# Altium footprint library FuzzyWasp.PcbLib: 36 footprints (part 1 of 3)
Each footprint in its own frame and in the unit in brackets; x right, y up, seen from the top. Pads: shape width x height; smd on the part's side, far side on the other; paste and mask are expansions set on the pad; w line width, h text height; cw(c..) or ccw(c..) is an arc to the next point about the centre after c.
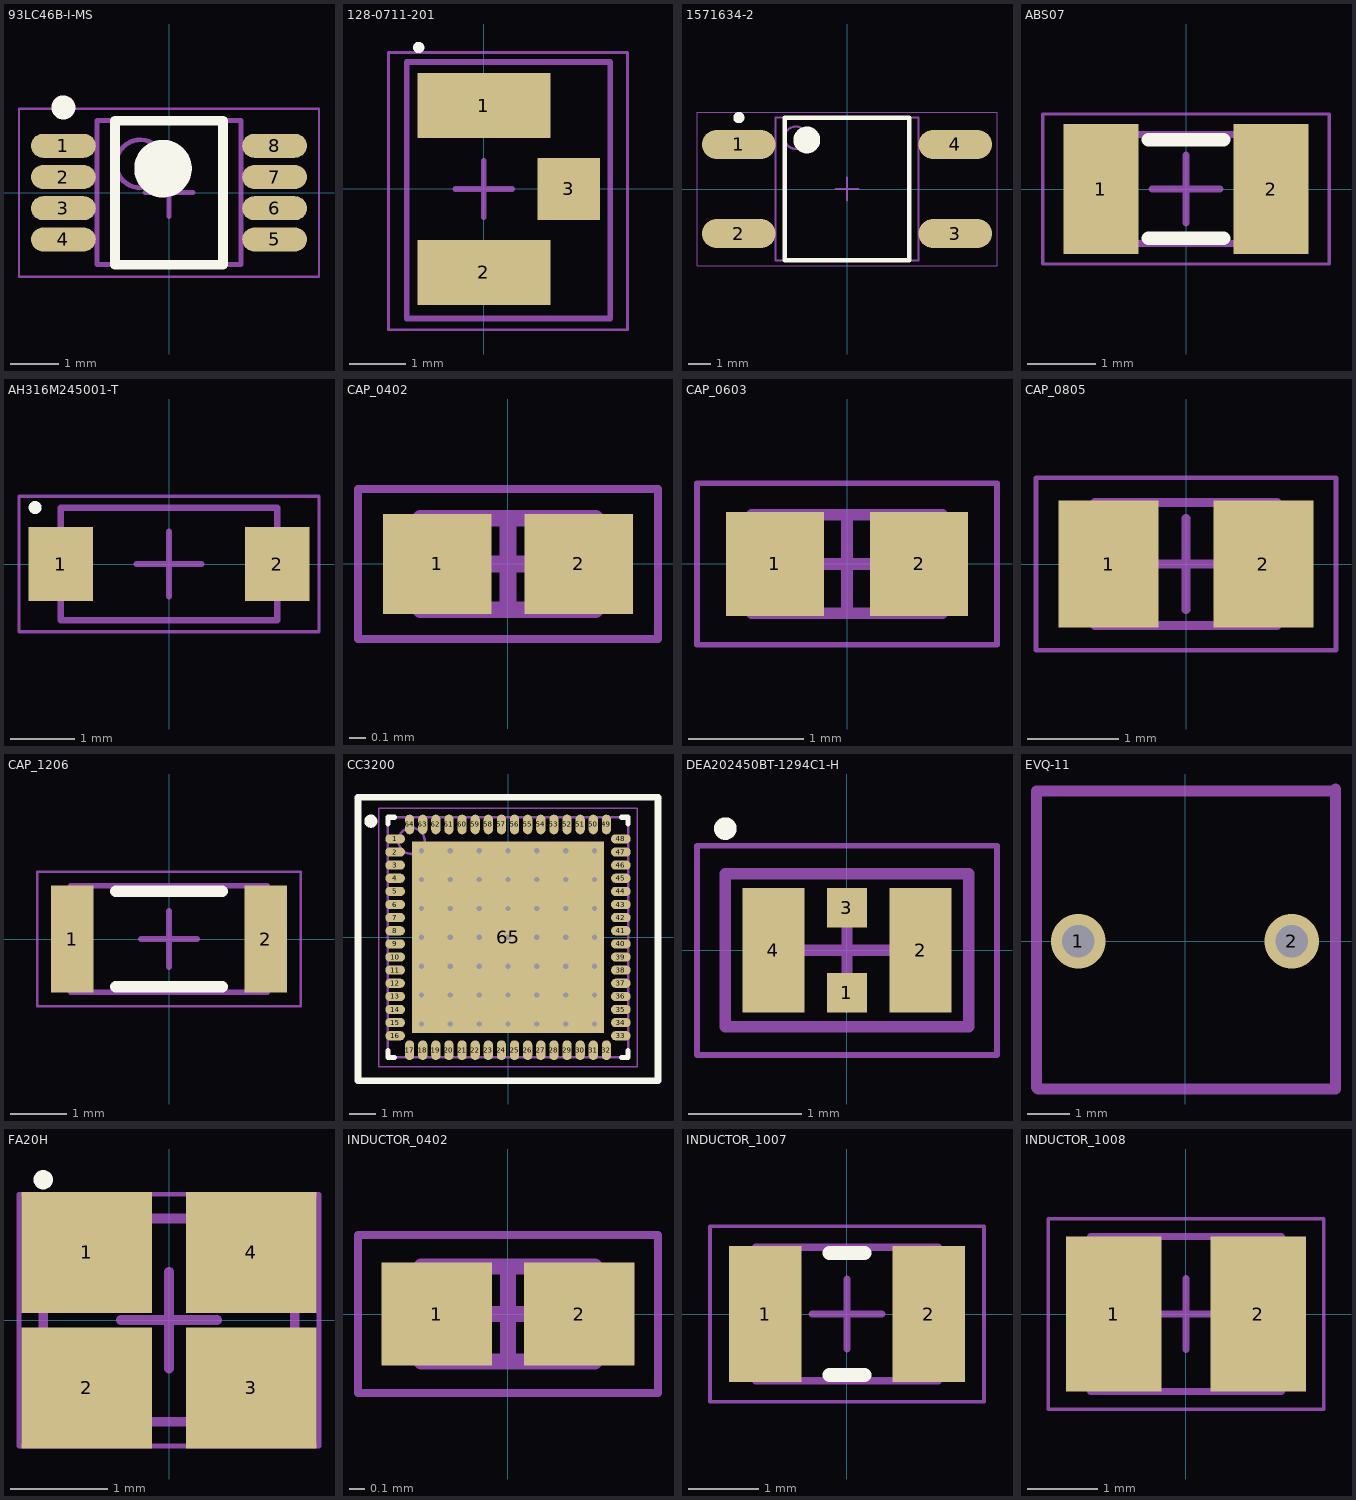
[diagram p0: the footprints below, top view; thin cyan lines are the x and y axes]

## 93LC46B-I-MS [mm] "TSOP, 8-Leads, Body 3.00x3.00mm, Pitch 0.65mm, IPC Medium Density"
height 1.1
pads (8):
  oval 1.35x0.5 smd: 1(-2.2,0.975) 2(-2.2,0.325) 3(-2.2,-0.325) 4(-2.2,-0.975) 5(2.2,-0.975) 6(2.2,-0.325) 7(2.2,0.325) 8(2.2,0.975)
Top Overlay:
  circle w0.25: c-2.2,1.775 r0.125
  circle w0.6: c-0.125,0.5 r0.3
  lines w0.2: -1.125,-1.5 -1.125,1.5 1.125,1.5 1.125,-1.5 -1.125,-1.5
Mechanical 13:
  circle w0.1: c-0.6,0.6 r0.5
  lines w0.1: -1.5,-1.5 -1.5,1.5 1.5,1.5 1.5,-1.5 -1.5,-1.5
Mechanical 15:
  lines w0.05: -3.125,-1.75 -3.125,1.75 3.125,1.75 3.125,-1.75 -3.125,-1.75
  lines w0.1: -0.5,0 0.5,0 ; 0,-0.5 0,0.5
3D body: height 1.1, standoff 0.15, extent -1.5,-1.5 1.5,1.5

## 128-0711-201 [mm]
height 1.25
pads (3):
  rect 2.35x1.15 smd: 1(0,1.475) 2(0,-1.475)
  rect 1.1x1.1 smd: 3(1.5,0)
Top Overlay:
  circle w0.1: c-1.15,2.5 r0.05
Mechanical 13:
  lines w0.1: -1.363,-2.289 2.235,-2.289 2.235,2.245 -1.363,2.245 -1.363,-2.289
Mechanical 15:
  lines w0.05: -1.684,-2.487 2.54,-2.487 2.54,2.413 -1.684,2.413 -1.684,-2.487
  lines w0.1: -0.5,0 0.5,0 ; 0,-0.5 0,0.5
3D body: height 1.25, standoff 0.2, extent -1.369,-2.289 2.235,2.232

## 1571634-2 [mm]
height 2
pads (4):
  oval 3.3x1.3 smd: 1(-4.85,2) 2(-4.85,-2) 3(4.85,-2) 4(4.85,2)
Top Overlay:
  circle w0.25: c-4.85,3.2 r0.125
  circle w0.6: c-1.8,2.2 r0.3
  lines w0.2: -2.8,-3.2 -2.8,3.2 2.8,3.2 2.8,-3.2 -2.8,-3.2
Mechanical 13:
  circle w0.1: c-2.3,2.3 r0.5
  lines w0.1: -3.2,-3.2 -3.2,3.2 3.2,3.2 3.2,-3.2 -3.2,-3.2
Mechanical 15:
  lines w0.05: -6.725,-3.45 -6.725,3.45 6.725,3.45 6.725,-3.45 -6.725,-3.45
  lines w0.1: -0.5,0 0.5,0 ; 0,-0.5 0,0.5
3D body: height 2, standoff 0.15, extent -3.2,-3.2 3.2,3.2

## ABS07 [mm] "Chip Diode, 2-Leads, Body 3.20x1.50mm, IPC Medium Density"
height 1.9
pads (2):
  rect 1.1x1.9 smd: 1(-1.25,0) 2(1.25,0)
Top Overlay:
  lines w0.2: -0.55,-0.725 0.55,-0.725 ; -0.55,0.725 0.55,0.725
Mechanical 13:
  lines w0.1: -1.65,-0.8 -1.65,0.8 1.65,0.8 1.65,-0.8 -1.65,-0.8
Mechanical 15:
  lines w0.05: -2.1,-1.1 -2.1,1.1 2.099,1.1 2.099,-1.1 -2.1,-1.1
  lines w0.1: -0.5,0 0.5,0 ; 0,-0.5 0,0.5
3D body: height 1.9, standoff 0, extent -1.05,-0.8 1.05,0.8
3D body: height 1.9, standoff 0, extent -1.65,-0.8 -1.05,0.8
3D body: height 1.9, standoff 0, extent 1.05,-0.8 1.65,0.8

## AH316M245001-T [mm] "ANT BLUETOOTH W-LAN ZIGBEE WIMAX"
height 0.6
pads (2):
  rect 1x1.15 smd: 1(-1.675,0) 2(1.675,0)
Top Overlay:
  circle w0.1: c-2.075,0.875 r0.05
Mechanical 13:
  lines w0.1: -1.675,-0.875 -1.675,0.875 1.675,0.875 1.675,-0.875 -1.675,-0.875
Mechanical 15:
  lines w0.05: -2.325,-1.05 -2.325,1.05 2.325,1.05 2.325,-1.05 -2.325,-1.05
  lines w0.1: -0.5,0 0.5,0 ; 0,-0.5 0,0.5
3D body: height 0.6, standoff 0, extent -1.675,-0.875 1.675,0.875

## CAP_0402 [mm] "LMK105BJ104KV-F"
height 0.55
pads (2):
  rect 0.65x0.6 smd: 1(-0.425,0) 2(0.425,0)
Mechanical 13:
  lines w0.1: -0.525,-0.275 0.525,-0.275 0.525,0.275 -0.525,0.275 -0.525,-0.275
Mechanical 15:
  lines w0.05: -0.9,-0.45 0.9,-0.45 0.9,0.45 -0.9,0.45 -0.9,-0.45
  lines w0.1: -0.275,0 0.275,0 ; 0,-0.275 0,0.275
3D body: height 0.55, standoff 0, extent 0.275,-0.275 0.525,0.275
3D body: height 0.55, standoff 0, extent -0.525,-0.275 -0.275,0.275
3D body: height 0.55, standoff 0, extent -0.275,-0.275 0.275,0.275

## CAP_0603 [mm] "GRM188R60J106ME47D"
height 0.85
pads (2):
  rect 0.85x0.9 smd: 1(-0.625,0) 2(0.625,0)
Mechanical 13:
  lines w0.1: -0.825,-0.425 0.825,-0.425 0.825,0.425 -0.825,0.425 -0.825,-0.425
Mechanical 15:
  lines w0.05: -1.3,-0.7 1.3,-0.7 1.3,0.7 -1.3,0.7 -1.3,-0.7
  lines w0.1: -0.425,0 0.425,0 ; 0,-0.425 0,0.425
3D body: height 0.85, standoff 0, extent 0.325,-0.425 0.825,0.425
3D body: height 0.85, standoff 0, extent -0.825,-0.425 -0.325,0.425
3D body: height 0.85, standoff 0, extent -0.325,-0.425 0.325,0.425

## CAP_0805 [mm] "GRM21BR61A106KE19L"
height 1.35
pads (2):
  rect 1.1x1.4 smd: 1(-0.85,0) 2(0.85,0)
Mechanical 13:
  lines w0.1: -1,-0.675 -1,0.675 1,0.675 1,-0.675 -1,-0.675
Mechanical 15:
  lines w0.05: -1.65,-0.95 -1.65,0.95 1.65,0.95 1.65,-0.95 -1.65,-0.95
  lines w0.1: -0.5,0 0.5,0 ; 0,-0.5 0,0.5
3D body: height 1.35, standoff 0, extent -0.57,-0.675 0.57,0.675
3D body: height 1.35, standoff 0, extent -1,-0.675 -0.57,0.675
3D body: height 1.35, standoff 0, extent 0.57,-0.675 1,0.675

## CAP_1206 [mm] "C3216X5R0J107M160AB"
height 1.9
pads (2):
  rect 0.75x1.9 smd: 1(-1.725,0) 2(1.725,0)
Top Overlay:
  lines w0.2: -0.95,-0.85 0.95,-0.85 ; -0.95,0.85 0.95,0.85
Mechanical 13:
  lines w0.1: -1.75,-0.95 1.75,-0.95 1.75,0.95 -1.75,0.95 -1.75,-0.95
Mechanical 15:
  lines w0.05: -2.35,-1.2 2.35,-1.2 2.35,1.2 -2.35,1.2 -2.35,-1.2
  lines w0.1: -0.5,0 0.5,0 ; 0,-0.5 0,0.5
3D body: height 1.9, standoff 0, extent 1.55,-0.95 1.75,0.95
3D body: height 1.9, standoff 0, extent -1.75,-0.95 -1.55,0.95
3D body: height 1.9, standoff 0, extent -1.55,-0.95 1.55,0.95

## CC3200 [mm] "PQFN, 64-Leads, Body 9.00x9.00mm, Pitch 0.50mm, Thermal Pad 7.30x7.30mm, IPC Medium Density"
height 1
pads (65):
  oval 0.75x0.35 smd: 1(-4.3,3.75) 2(-4.3,3.25) 3(-4.3,2.75) 4(-4.3,2.25) 5(-4.3,1.75) 6(-4.3,1.25) 7(-4.3,0.75) 8(-4.3,0.25) 9(-4.3,-0.25) 10(-4.3,-0.75) 11(-4.3,-1.25) 12(-4.3,-1.75) 13(-4.3,-2.25) 14(-4.3,-2.75) 15(-4.3,-3.25) 16(-4.3,-3.75) 33(4.3,-3.75) 34(4.3,-3.25) 35(4.3,-2.75) 36(4.3,-2.25) 37(4.3,-1.75) 38(4.3,-1.25) 39(4.3,-0.75) 40(4.3,-0.25) 41(4.3,0.25) 42(4.3,0.75) 43(4.3,1.25) 44(4.3,1.75) 45(4.3,2.25) 46(4.3,2.75) 47(4.3,3.25) 48(4.3,3.75)
  oval 0.35x0.75 smd: 17(-3.75,-4.3) 18(-3.25,-4.3) 19(-2.75,-4.3) 20(-2.25,-4.3) 21(-1.75,-4.3) 22(-1.25,-4.3) 23(-0.75,-4.3) 24(-0.25,-4.3) 25(0.25,-4.3) 26(0.75,-4.3) 27(1.25,-4.3) 28(1.75,-4.3) 29(2.25,-4.3) 30(2.75,-4.3) 31(3.25,-4.3) 32(3.75,-4.3) 49(3.75,4.3) 50(3.25,4.3) 51(2.75,4.3) 52(2.25,4.3) 53(1.75,4.3) 54(1.25,4.3) 55(0.75,4.3) 56(0.25,4.3) 57(-0.25,4.3) 58(-0.75,4.3) 59(-1.25,4.3) 60(-1.75,4.3) 61(-2.25,4.3) 62(-2.75,4.3) 63(-3.25,4.3) 64(-3.75,4.3)
  rect 7.3x7.3 smd: 65(0,0)
via 3.3,-3.3 diameter 0.5 hole 0.2
via 2.2,-3.3 diameter 0.5 hole 0.2
via 1.1,-3.3 diameter 0.5 hole 0.2
via 0,-3.3 diameter 0.5 hole 0.2
via -1.1,-3.3 diameter 0.5 hole 0.2
via -2.2,-3.3 diameter 0.5 hole 0.2
via -3.3,-3.3 diameter 0.5 hole 0.2
via 3.3,-2.2 diameter 0.5 hole 0.2
via 2.2,-2.2 diameter 0.5 hole 0.2
via 1.1,-2.2 diameter 0.5 hole 0.2
via 0,-2.2 diameter 0.5 hole 0.2
via -1.1,-2.2 diameter 0.5 hole 0.2
via -2.2,-2.2 diameter 0.5 hole 0.2
via -3.3,-2.2 diameter 0.5 hole 0.2
via 3.3,-1.1 diameter 0.5 hole 0.2
via 2.2,-1.1 diameter 0.5 hole 0.2
via 1.1,-1.1 diameter 0.5 hole 0.2
via 0,-1.1 diameter 0.5 hole 0.2
via -1.1,-1.1 diameter 0.5 hole 0.2
via -2.2,-1.1 diameter 0.5 hole 0.2
via -3.3,-1.1 diameter 0.5 hole 0.2
via 3.3,0 diameter 0.5 hole 0.2
via 2.2,0 diameter 0.5 hole 0.2
via 1.1,0 diameter 0.5 hole 0.2
via 0,0 diameter 0.5 hole 0.2
via -1.1,0 diameter 0.5 hole 0.2
via -2.2,0 diameter 0.5 hole 0.2
via -3.3,0 diameter 0.5 hole 0.2
via 3.3,1.1 diameter 0.5 hole 0.2
via 2.2,1.1 diameter 0.5 hole 0.2
via 1.1,1.1 diameter 0.5 hole 0.2
via 0,1.1 diameter 0.5 hole 0.2
via -1.1,1.1 diameter 0.5 hole 0.2
via -2.2,1.1 diameter 0.5 hole 0.2
via -3.3,1.1 diameter 0.5 hole 0.2
via 3.3,2.2 diameter 0.5 hole 0.2
via 2.2,2.2 diameter 0.5 hole 0.2
via 1.1,2.2 diameter 0.5 hole 0.2
via 0,2.2 diameter 0.5 hole 0.2
via -1.1,2.2 diameter 0.5 hole 0.2
via -2.2,2.2 diameter 0.5 hole 0.2
via -3.3,2.2 diameter 0.5 hole 0.2
via 3.3,3.3 diameter 0.5 hole 0.2
via 2.2,3.3 diameter 0.5 hole 0.2
via 1.1,3.3 diameter 0.5 hole 0.2
via 0,3.3 diameter 0.5 hole 0.2
via -1.1,3.3 diameter 0.5 hole 0.2
via -2.2,3.3 diameter 0.5 hole 0.2
via -3.3,3.3 diameter 0.5 hole 0.2
Top Overlay:
  circle w0.25: c-5.225,4.425 r0.125
  lines w0.2: -4.575,-4.325 -4.575,-4.575 -4.325,-4.575 ; -4.575,4.325 -4.575,4.575 -4.325,4.575 ; 4.325,-4.575 4.575,-4.575 4.575,-4.325 ; 4.325,4.575 4.575,4.575 4.575,4.325
  lines w0.254: -5.715,-5.461 5.715,-5.461 5.715,5.334 -5.715,5.334 -5.715,-5.461
Mechanical 13:
  circle w0.1: c-3.675,3.675 r0.5
  lines w0.1: -4.575,-4.575 4.575,-4.575 4.575,4.575 -4.575,4.575 -4.575,-4.575
Mechanical 15:
  lines w0.05: -4.925,-4.925 4.925,-4.925 4.925,4.925 -4.925,4.925 -4.925,-4.925
  lines w0.1: -0.5,0 0.5,0 ; 0,-0.5 0,0.5
3D body: height 1, standoff 0.8, extent -4.575,-4.575 4.575,4.575

## DEA202450BT-1294C1-H [mm] "FILTER BANDPASS 2.45GHZ WLAN SMD"
height 0.8
pads (4):
  rect 0.35x0.35 smd: 1(0,-0.375) 3(0,0.375)
  rect 0.55x1.1 smd: 2(0.65,0) 4(-0.65,0)
Top Overlay:
  circle w0.1: c-1.075,1.075 r0.05
Mechanical 13:
  lines w0.1: -1.075,-0.675 -1.075,0.675 1.075,0.675 1.075,-0.675 -1.075,-0.675
Mechanical 15:
  lines w0.05: -1.325,-0.925 -1.325,0.925 1.325,0.925 1.325,-0.925 -1.325,-0.925
  lines w0.1: -0.5,0 0.5,0 ; 0,-0.5 0,0.5
3D body: height 0.8, standoff 0.2, extent -1.075,-0.675 1.075,0.675

## EVQ-11 [mm]
pads (2):
  round 1.27 hole 0.762: 1(-2.5,0) 2(2.5,0)
via -2.5,0 diameter 1.27 hole 0.711
via 2.5,0 diameter 1.27 hole 0.711
Mechanical 15:
  lines w0.254: -3.475,-3.428 -3.475,3.519 3.472,3.519 3.519,3.566 3.519,-3.459 -3.444,-3.459 -3.475,-3.428

## FA20H [mm] "DFN, 4-Leads, Body 2.00x2.50mm, Pitch 1.70mm, IPC Medium Density"
height 0.55
pads (4):
  rect 1.35x1.25 smd: 1(-0.85,0.7) 2(-0.85,-0.7) 3(0.85,-0.7) 4(0.85,0.7)
Top Overlay:
  circle w0.1: c-1.3,1.45 r0.05
Mechanical 13:
  lines w0.1: -1.3,-1.05 -1.3,1.05 1.3,1.05 1.3,-1.05 -1.3,-1.05
Mechanical 15:
  lines w0.05: -1.55,-1.3 -1.55,1.3 1.55,1.3 1.55,-1.3 -1.55,-1.3
  lines w0.1: -0.5,0 0.5,0 ; 0,-0.5 0,0.5
3D body: height 0.55, standoff 0.05, extent -1.3,-1.05 1.3,1.05

## INDUCTOR_0402 [mm] "INDUCTOR 3.6NH 0.1NH 0402"
height 0.45
pads (2):
  rect 0.7x0.65 smd: 1(-0.45,0) 2(0.45,0)
Mechanical 13:
  lines w0.1: -0.55,-0.3 0.55,-0.3 0.55,0.3 -0.55,0.3 -0.55,-0.3
Mechanical 15:
  lines w0.05: -0.95,-0.5 0.95,-0.5 0.95,0.5 -0.95,0.5 -0.95,-0.5
  lines w0.1: -0.3,0 0.3,0 ; 0,-0.3 0,0.3
3D body: height 0.45, standoff 0, extent 0.3,-0.3 0.55,0.3
3D body: height 0.45, standoff 0, extent -0.55,-0.3 -0.3,0.3
3D body: height 0.45, standoff 0, extent -0.3,-0.3 0.3,0.3

## INDUCTOR_1007 [mm] "INDUCTOR POWER 10UH 1007"
height 1.9
pads (2):
  rect 1.03x1.94 smd: 1(-1.165,0) 2(1.165,0)
Top Overlay:
  lines w0.2: -0.25,-0.87 0.25,-0.87 ; -0.25,0.87 0.25,0.87
Mechanical 13:
  lines w0.1: -1.3,-0.95 -1.3,0.95 1.3,0.95 1.3,-0.95 -1.3,-0.95
Mechanical 15:
  lines w0.05: -1.95,-1.25 -1.95,1.25 1.95,1.25 1.95,-1.25 -1.95,-1.25
  lines w0.1: -0.5,0 0.5,0 ; 0,-0.5 0,0.5
3D body: height 1.9, standoff 0, extent -0.8,-0.95 0.8,0.95
3D body: height 1.9, standoff 0, extent -1.3,-0.95 -0.8,0.95
3D body: height 1.9, standoff 0, extent 0.8,-0.95 1.3,0.95

## INDUCTOR_1008 [mm] "INDUCTOR 2.2UH 20% 1300MA 1008"
height 1
pads (2):
  rect 1.35x2.2 smd: 1(-1.025,0) 2(1.025,0)
Mechanical 13:
  lines w0.1: -1.35,-1.1 1.35,-1.1 1.35,1.1 -1.35,1.1 -1.35,-1.1
Mechanical 15:
  lines w0.05: -1.95,-1.35 1.95,-1.35 1.95,1.35 -1.95,1.35 -1.95,-1.35
  lines w0.1: -0.5,0 0.5,0 ; 0,-0.5 0,0.5
3D body: height 1, standoff 0, extent 0.75,-1.1 1.35,1.1
3D body: height 1, standoff 0, extent -1.35,-1.1 -0.75,1.1
3D body: height 1, standoff 0, extent -0.75,-1.1 0.75,1.1